# Altium schematic symbol library Schlib.SchLib: 21 symbols
Pins are listed as number, name and electrical type; pins without a type are passive.

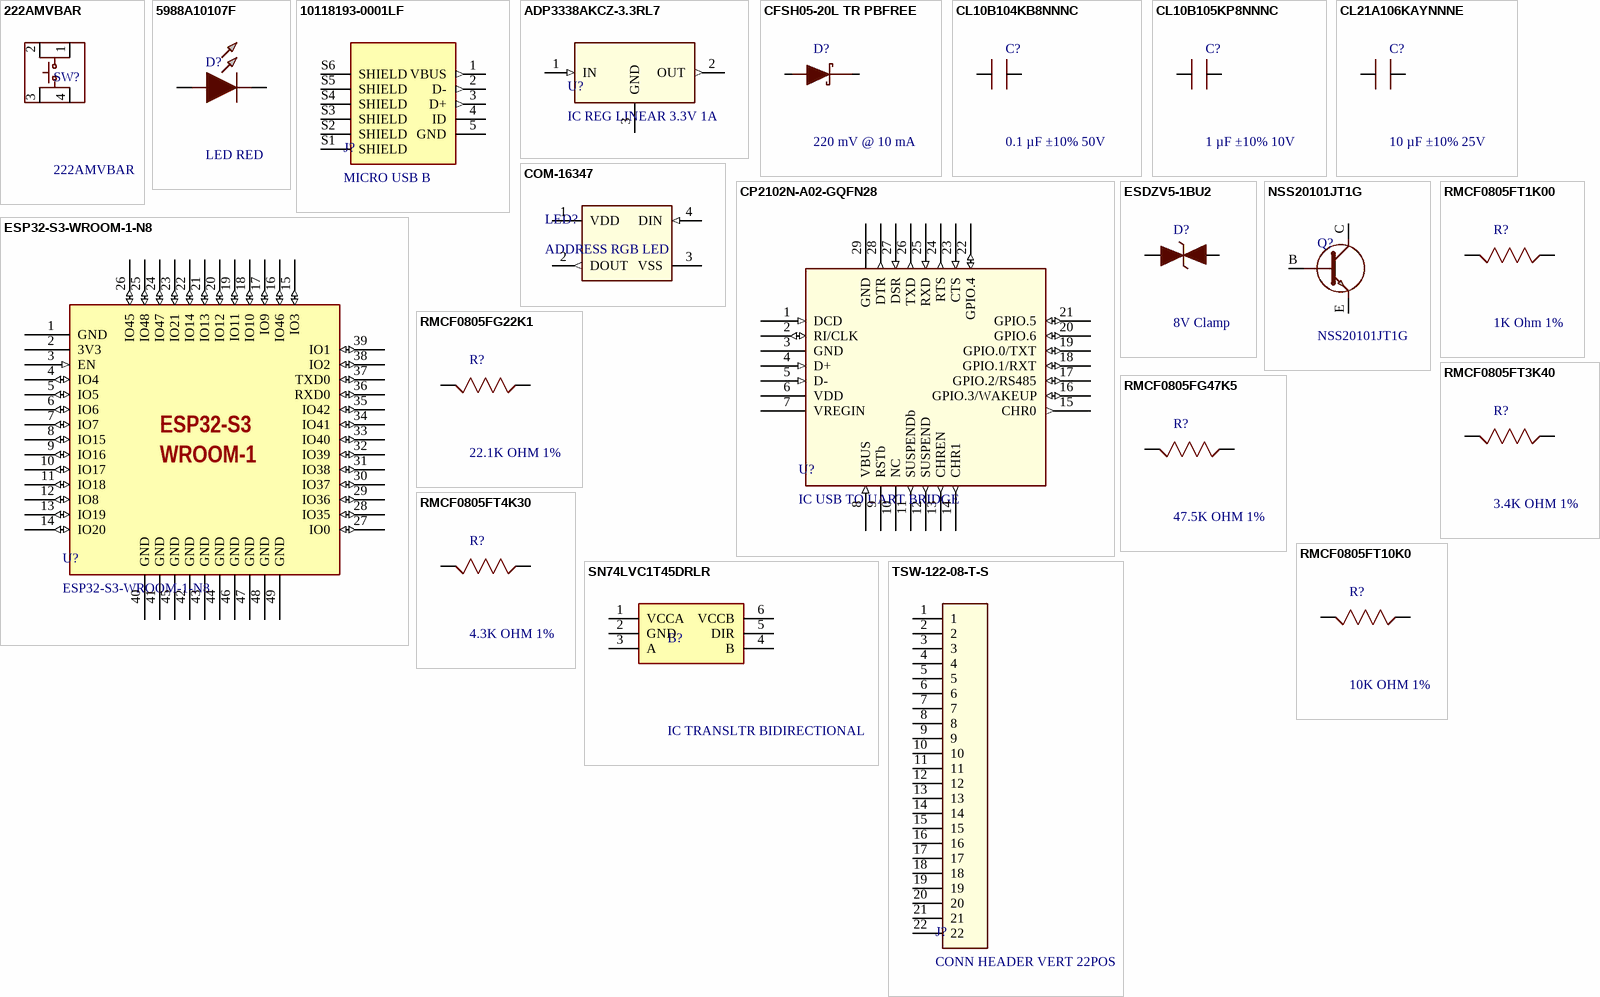
[diagram p0: symbols 222AMVBAR to TSW-122-08-T-S]

## 222AMVBAR
designator SW?
Tactile Switches Gull Wing AF 160gf Act. Dir. Vertical; Manufacturer_Name: CTS; Geometry.Height: 5.2mm; Manufacturer_Part_Number: 222AMVBAR; Mouser Part Number: 774-222AMVBAR; Mouser Price/Stock: https://www.mouser.co.uk/ProductDetail/CTS-Electronic-Components/222AMVBAR?qs=%252BiOMRfgENTH99oc01%252BgePw%3D%3D; Arrow Part Number: 222AMVBAR; Arrow Price/Stock: https://www.arrow.com/en/products/222amvbar/cts; Datasheet Link: https://www.ctscorp.com/wp-content/uploads/222A.pdf
footprint 222AMVBAR
pins: 1 COM_1, 2 NO_1, 3 COM_2, 4 NO_2

## 5988A10107F
designator D?, comment LED RED
598 A SMD LED 0402 pkg Red 635nm Low Current 5ma 7" Reel; Voltage - Forward (Vf) (Typ): 1.6V; Current - Forward (mA): 20; Reverse Voltage (V): 5
footprint 5988A10107F
pins: 1 K, 2 A

## 10118193-0001LF
designator J?, comment MICRO USB B
Right Angle Surface Mount Mount Female USB Connector 100 V ac 1.8A | Amphenol FCI (Amphenol CS) 10118193-0001LF; Specifications: USB 2.0; MF: Amphenol ICC; SnapEDA_Link: https://www.snapeda.com/parts/10118193-0001LF/Amphenol+FCI/view-part/?ref=snap; Package: None; MP: 10118193-0001LF; Check_prices: https://www.snapeda.com/parts/10118193-0001LF/Amphenol+FCI/view-part/?ref=eda
footprint AMPHENOL_10118193-0001LF
pins: 1 VBUS (out), 2 D- (out), 3 D+ (out), 4 ID, 5 GND, S1 SHIELD, S2 SHIELD, S3 SHIELD, S4 SHIELD, S5 SHIELD, S6 SHIELD

## ADP3338AKCZ-3.3RL7
designator U?, comment IC REG LINEAR 3.3V 1A
Linear Voltage Regulator IC Positive Fixed 1 Output 1A SOT-223-3; Voltage - Input (Max): 8V; Voltage Dropout (Max): 0.4V @ 1A; Voltage - Output (Min/Fixed): 3.3V; Current - Output: 1A
footprint KC_3_ADI
pins: 1 IN (in), 2 OUT (out), 3 GND

## CFSH05-20L TR PBFREE
designator D?, comment 220 mV @ 10 mA
Diode 20 V 500mA Surface Mount SOD-882; Current - Reverse Leakage @ Vr: 8 µA @ 10 V; Voltage - DC Reverse (Vr) (Max): 20 V; Voltage - Forward (Vf) (Max) @ If: 220 mV @ 10 mA
footprint SODFL1608X70N
pins: 1 K, 2 A

## CL10B104KB8NNNC
designator C?, comment 0.1 µF ±10% 50V
0.1 µF ±10% 50V Ceramic Capacitor X7R 0603 (1608 Metric); Value: 0 .1 µF; Tolerance: ±10%; Voltage - Rated: 50 V
footprint CAPC1608X90N
pins: 1, 2

## CL10B105KP8NNNC
designator C?, comment 1 µF ±10% 10V
1 µF ±10% 10V Ceramic Capacitor X7R 0603 (1608 Metric); Value: 1 µF; Tolerance: ±10%; Voltage - Rated: 10 V
footprint CAPC1608X90N
pins: 1, 2

## CL21A106KAYNNNE
designator C?, comment 10 µF ±10% 25V
10 µF ±10% 25V Ceramic Capacitor X5R 0805 (2012 Metric); Value: 10 µF; Tolerance: ±10%; Voltage - Rated: 25V
footprint CAPC2012X145N
pins: 1, 2

## COM-16347
designator LED?, comment ADDRESS RGB LED
Addressable Lighting - LED Serial NRZ (Shift Register) Red, Green, Blue (RGB) 5.00mm L x 5.00mm W; Type: LED Addressable; Power supply voltage: +3.5~+5.3; Red Voltage(V): 2.0-2.2; Green Voltage(V): 3.0-3.4; Blue Voltage(V): 3.0-3.4
footprint COM-16347_SPK
pins: 1 VDD (power), 2 DOUT (out), 3 VSS, 4 DIN (in)

## CP2102N-A02-GQFN28
designator U?, comment IC USB TO UART BRIDGE
USB Bridge, USB to UART USB 2.0 UART Interface 28-QFN (5x5); Standards: USB 2.0; Voltage - Supply: 3V ~ 3.6V; Current - Supply: 9.5mA; Protocol: USB; Function: Bridge, USB to UART
footprint QFN28_5X5_SIL
pins: 1 DCD (in), 2 RI/CLK (io), 3 GND, 4 D+ (in), 5 D- (in), 6 VDD (power), 7 VREGIN (power), 8 VBUS (in), 9 RSTb, 10 NC, 11 SUSPENDb (out), 12 SUSPEND (out), 13 CHREN (out), 14 CHR1 (out), 15 CHR0 (out), 16 GPIO.3/WAKEUP (io), 17 GPIO.2/RS485 (io), 18 GPIO.1/RXT (io), 19 GPIO.0/TXT (io), 20 GPIO.6 (io), 21 GPIO.5 (io), 22 GPIO.4 (io), 23 CTS (in), 24 RTS (out), 25 RXD (in), 26 TXD (out), 27 DSR (in), 28 DTR (out), 29 GND

## ESDZV5-1BU2
designator D?, comment 8V Clamp
8V (Typ) Clamp 7A (8/20µs) Ipp Tvs Diode Surface Mount 0201; Voltage - Reverse Standoff (Typ): 5.5V (Max); Voltage - Breakdown (Min): 5.8V; Voltage - Clamping (Max) @ Ipp: 8V (Typ)
footprint SODFL1006X40N
pins: 1, 2

## ESP32-S3-WROOM-1-N8
designator U?
WiFi 802.11a/b/g/n, Bluetooth v5.0 Transceiver Module 2.4GHz PCB Trace; Mfr: Espressif Systems; Serial Interfaces: ADC, GPIO, I2C, I2S, SPI, PWM, UART, USB; Memory Size: 8MB Flash; Category: RF Transceiver Modules and Modems; Frequency: 2.4GHz
footprint ESP32-S3-WROOM-1_EXP
pins: 1 GND (power), 2 3V3 (power), 3 EN (in), 4 IO4 (io), 5 IO5 (io), 6 IO6 (io), 7 IO7 (io), 8 IO15 (io), 9 IO16 (io), 10 IO17 (io), 11 IO18 (io), 12 IO8 (io), 13 IO19 (io), 14 IO20 (io), 15 IO3 (io), 16 IO46 (io), 17 IO9 (io), 18 IO10 (io), 19 IO11 (io), 20 IO12 (io), 21 IO13 (io), 22 IO14 (io), 23 IO21 (io), 24 IO47 (io), 25 IO48 (io), 26 IO45 (io), 27 IO0 (io), 28 IO35 (io), 29 IO36 (io), 30 IO37 (io), 31 IO38 (io), 32 IO39 (io), 33 IO40 (io), 34 IO41 (io), 35 IO42 (io), 36 RXD0 (io), 37 TXD0 (io), 38 IO2 (io), 39 IO1 (io), 40 GND (power), 41 GND (power), 42 GND (power), 43 GND (power), 44 GND (power), 45 GND (power), 46 GND (power), 47 GND (power), 48 GND (power), 49 GND (power)
text: ESP32-S3; WROOM-1

## NSS20101JT1G
designator Q?
Bipolar Transistors - BJT 20V NPN LOW VCE(SAT); Collector-Emitter Voltage: 20; Collector-Base Voltage: 40; Emitter-Base Voltage: 6.0; Collector Current − Continuous: 1.0
footprint SOTFL50P160X80-3N
pins: B, C, E

## RMCF0805FG22K1
designator R?, comment 22.1K OHM 1%
22.1 kOhms ±1% 0.125W, 1/8W Chip Resistor 0805 (2012 Metric) Automotive AEC-Q200 Thick Film; Value: 22.1 kOhms; Tolerance: ±1%; Power (Watts): 0.125W, 1/8W
footprint RESC2012X65N
pins: 1, 2

## RMCF0805FG47K5
designator R?, comment 47.5K OHM 1%
47.5 kOhms ±1% 0.125W, 1/8W Chip Resistor 0805 (2012 Metric) Automotive AEC-Q200 Thick Film; Value: 47.5 kOhms; Tolerance: ±1%; Power (Watts): 0.125W, 1/8W
footprint RESC2012X65N
pins: 1, 2

## RMCF0805FT1K00
designator R?, comment 1K Ohm 1%
1 kOhms ±1% 0.125W, 1/8W Chip Resistor 0805 (2012 Metric) Automotive AEC-Q200 Thick Film; Value: 1K OHM; Tolerance: ± 1%; Power (Watts): 0.125W, 1/8W
footprint RESC2012X65N
pins: 1, 2

## RMCF0805FT3K40
designator R?, comment 3.4K OHM 1%
3.4 kOhms ±1% 0.125W, 1/8W Chip Resistor 0805 (2012 Metric) Automotive AEC-Q200 Thick Film; Value: 3.4 kOhms; Tolerance: ±1%; Power (Watts): 0.125W, 1/8W
footprint RESC2012X65N
pins: 1, 2

## RMCF0805FT4K30
designator R?, comment 4.3K OHM 1%
4.3 kOhms ±1% 0.125W, 1/8W Chip Resistor 0805 (2012 Metric) Automotive AEC-Q200 Thick Film; Value: 4.3 kOhms; Tolerance: ±1%; Power (Watts): 0.125W, 1/8W
footprint RESC2012X65N
pins: 1, 2

## RMCF0805FT10K0
designator R?, comment 10K OHM 1%
10 kOhms ±1% 0.125W, 1/8W Chip Resistor 0805 (2012 Metric) Automotive AEC-Q200 Thick Film; Value: 10 kOhms; Tolerance: ±1%; Power (Watts): 1/8W
footprint RESC2012X65N
pins: 1, 2

## SN74LVC1T45DRLR
designator B?, comment IC TRANSLTR BIDIRECTIONAL
Voltage Level Translator Bidirectional 1 Circuit 1 Channel 420Mbps SOT-5X3; Voltage - VCCA: 1.65 V ~ 5.5 V; Translator Type: Voltage Level; Channel Type: Bidirectional; Voltage - VCCB: 1.65 V ~ 5.5 V
footprint SOTFL50P160X60-6N
pins: 1 VCCA, 2 GND, 3 A, 4 B, 5 DIR, 6 VCCB

## TSW-122-08-T-S
designator J?, comment CONN HEADER VERT 22POS
Connector Header Through Hole 22 position 0.100" (2.54mm); Mfr_Name: Samtec Inc; RefDes: RefDes; Type: Type
footprint CON22_1X22_TU_TSW
pins: 1, 2, 3, 4, 5, 6, 7, 8, 9, 10, 11, 12, 13, 14, 15, 16, 17, 18, 19, 20, 21, 22